# Altium footprint library m2.PcbLib: 2 footprints
Each footprint in its own frame and in the unit in brackets; x right, y up, seen from the top. Pads: shape width x height; smd on the part's side, far side on the other; paste and mask are expansions set on the pad; w line width, h text height; cw(c..) or ccw(c..) is an arc to the next point about the centre after c.
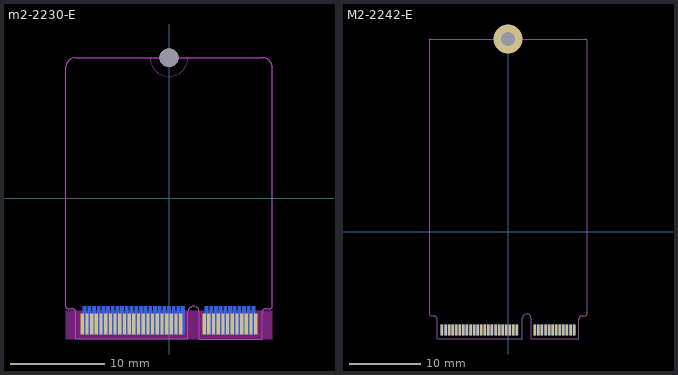
[diagram p0: the footprints below, top view; thin cyan lines are the x and y axes]

## m2-2230-E [mm] "UNTESTED m.2 2230 type E"
height 3
pads (67):
  rect 0.35x2.2 smd: 1(9.25,-13.4) 3(8.75,-13.4) 5(8.25,-13.4) 7(7.75,-13.4) 9(7.25,-13.4) 11(6.75,-13.4) 13(6.25,-13.4) 15(5.75,-13.4) 17(5.25,-13.4) 19(4.75,-13.4) 21(4.25,-13.4) 23(3.75,-13.4) 33(1.25,-13.4) 35(0.75,-13.4) 37(0.25,-13.4) 39(-0.25,-13.4) 41(-0.75,-13.4) 43(-1.25,-13.4) 45(-1.75,-13.4) 47(-2.25,-13.4) 49(-2.75,-13.4) 51(-3.25,-13.4) 53(-3.75,-13.4) 55(-4.25,-13.4) 57(-4.75,-13.4) 59(-5.25,-13.4) 61(-5.75,-13.4) 63(-6.25,-13.4) 65(-6.75,-13.4) 67(-7.25,-13.4) 69(-7.75,-13.4) 71(-8.25,-13.4) 73(-8.75,-13.4) 75(-9.25,-13.4)
  rect 0.35x3 smd far side: 2(9,-13) 4(8.5,-13) 6(8,-13) 8(7.5,-13) 10(7,-13) 12(6.5,-13) 14(6,-13) 16(5.5,-13) 18(5,-13) 20(4.5,-13) 22(4,-13) 32(1.5,-13) 34(1,-13) 36(0.5,-13) 38(0,-13) 40(-0.5,-13) 42(-1,-13) 44(-1.5,-13) 46(-2,-13) 48(-2.5,-13) 50(-3,-13) 52(-3.5,-13) 54(-4,-13) 56(-4.5,-13) 58(-5,-13) 60(-5.5,-13) 62(-6,-13) 64(-6.5,-13) 66(-7,-13) 68(-7.5,-13) 70(-8,-13) 72(-8.5,-13) 74(-9,-13)
via 0,15 diameter 2 hole 2
Top Solder:
  region: 9.925,-15 3.225,-15 3.225,-14.7 9.925,-14.7
  region: 2.025,-15 -9.925,-15 -9.925,-14.7 2.025,-14.7
  region: -11,-15 -11,-12 11,-12 11,-15
Bottom Solder:
  region: 9.925,-15 3.225,-15 3.225,-14.7 9.925,-14.7
  region: 2.025,-15 -9.925,-15 -9.925,-14.7 2.025,-14.7
  region: -11,-15 -11,-12 11,-12 11,-15
Keep-Out Layer:
  region: -11,-12 11,-12 11,-15 -11,-15
  lines w0.1: -2,15 ccw(c0,15) 2,15 ; -11,-11.55 ccw(c-10.8,-11.55) -10.8,-11.75 -10.425,-11.75 cw(c-10.425,-12.25) -9.925,-12.25 -9.925,-15 2.025,-15 2.025,-12.1 cw(c2.625,-12.1) 3.225,-12.1 3.225,-15 9.925,-15 9.925,-12.25 cw(c10.425,-12.25) 10.425,-11.75 10.8,-11.75 ccw(c10.8,-11.55) 11,-11.55 11,14 ccw(c10,14) 10,15 0,15 -10,15 ccw(c-10,14) -11,14 -11,-11.55
Mechanical 1:
  lines w0.1: -11,-11.55 ccw(c-10.8,-11.55) -10.8,-11.75 -10.425,-11.75 cw(c-10.425,-12.25) -9.925,-12.25 -9.925,-15 2.025,-15 2.025,-12.1 cw(c2.625,-12.1) 3.225,-12.1 3.225,-15 9.925,-15 9.925,-12.25 cw(c10.425,-12.25) 10.425,-11.75 10.8,-11.75 ccw(c10.8,-11.55) 11,-11.55 11,14 ccw(c10,14) 10,15 0,15 -10,15 ccw(c-10,14) -11,14 -11,-11.55

## M2-2242-E [mm] "UNTESTED"
pads (71):
  rect 0.35x1.5 smd: 1(9.25,-13.75) 3(8.75,-13.75) 5(8.25,-13.75) 7(7.75,-13.75) 9(7.25,-13.75) 11(6.75,-13.75) 13(6.25,-13.75) 15(5.75,-13.75) 17(5.25,-13.75) 19(4.75,-13.75) 21(4.25,-13.75) 23(3.75,-13.75) 25(1.25,-13.75) 25(1.25,-13.75) 25(1.25,-13.75) 27(0.75,-13.75) 29(0.25,-13.75) 31(-0.25,-13.75) 33(-0.75,-13.75) 35(-1.25,-13.75) 37(-1.75,-13.75) 39(-2.25,-13.75) 41(-2.75,-13.75) 43(-3.25,-13.75) 45(-3.75,-13.75) 47(-4.25,-13.75) 49(-4.75,-13.75) 51(-5.25,-13.75) 53(-5.75,-13.75) 55(-6.25,-13.75) 57(-6.75,-13.75) 59(-7.25,-13.75) 61(-7.75,-13.75) 63(-8.25,-13.75) 65(-8.75,-13.75) 67(-9.25,-13.75)
  rect 0.35x1.5 smd far side: 2(9.25,-13.75) 4(8.75,-13.75) 6(8.25,-13.75) 8(7.75,-13.75) 10(7.25,-13.75) 12(6.75,-13.75) 14(6.25,-13.75) 16(5.75,-13.75) 18(5.25,-13.75) 20(4.75,-13.75) 22(4.25,-13.75) 24(3.75,-13.75) 26(1.25,-13.75) 26(1.25,-13.75) 28(0.75,-13.75) 30(0.25,-13.75) 32(-0.25,-13.75) 34(-0.75,-13.75) 36(-1.25,-13.75) 38(-1.75,-13.75) 40(-2.25,-13.75) 42(-2.75,-13.75) 44(-3.25,-13.75) 46(-3.75,-13.75) 48(-4.25,-13.75) 50(-4.75,-13.75) 52(-5.25,-13.75) 54(-5.75,-13.75) 56(-6.25,-13.75) 58(-6.75,-13.75) 60(-7.25,-13.75) 62(-7.75,-13.75) 64(-8.25,-13.75) 66(-8.75,-13.75) 68(-9.25,-13.75)
via 0,27 diameter 4 hole 2
Top Solder:
  region: 2.025,-15 -9.925,-15 -9.925,-14.7 2.025,-14.7
  region: 9.925,-15 3.225,-15 3.225,-14.7 9.925,-14.7
Bottom Solder:
  region: 2.025,-15 -9.925,-15 -9.925,-14.7 2.025,-14.7
  region: 9.925,-15 3.225,-15 3.225,-14.7 9.925,-14.7
Mechanical 1:
  lines w0.1: -11,-11.55 ccw(c-10.8,-11.55) -10.8,-11.75 -10.425,-11.75 cw(c-10.425,-12.25) -9.925,-12.25 -9.925,-15 2.025,-15 2.025,-12.1 cw(c2.625,-12.1) 3.225,-12.1 3.225,-15 9.925,-15 9.925,-12.25 cw(c10.425,-12.25) 10.425,-11.75 10.8,-11.75 ccw(c10.8,-11.55) 11,-11.55 11,26.8 ccw(c10.8,26.8) 10.8,27 0,27 -10.8,27 ccw(c-10.8,26.8) -11,26.8 -11,-11.55